# EAGLE library part TPA4861 (library CEDT_JANUARY_2015_v6)
1 Watt Mono Audio Power Amplifier. Texas Instruments
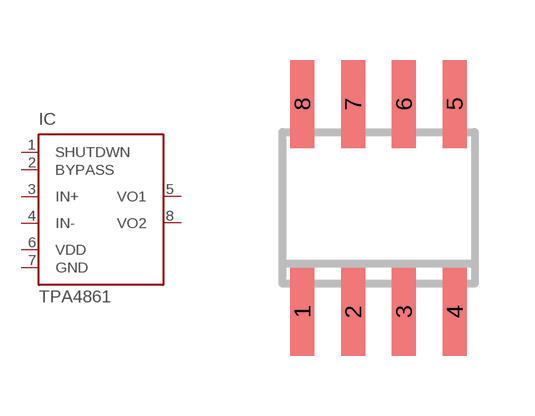
[diagram p44: symbol with the pads of SO08; footprint SO08]

Designator prefix IC

## TPA4861  [SO08]
1  SHUTDWN  pas
2  BYPASS  pas
3  IN+  pas
4  IN-  pas
5  VO1  pas
6  VDD  pwr
7  GND  pwr
8  VO2  pas

## Footprint SO08 (pad centres in mm)
Small Outline Package 8 NS Package M08A
smd 0.6 x 2.2: 1 -1.905,-2.6; 2 -0.635,-2.6; 3 0.635,-2.6; 4 1.905,-2.6; 5 1.905,2.6; 6 0.635,2.6; 7 -0.635,2.6; 8 -1.905,2.6